# Altium footprint library ICs.PcbLib: 20 footprints (part 2 of 2)
Each footprint in its own frame and in the unit in brackets; x right, y up, seen from the top. Pads: shape width x height; smd on the part's side, far side on the other; paste and mask are expansions set on the pad; w line width, h text height; cw(c..) or ccw(c..) is an arc to the next point about the centre after c.
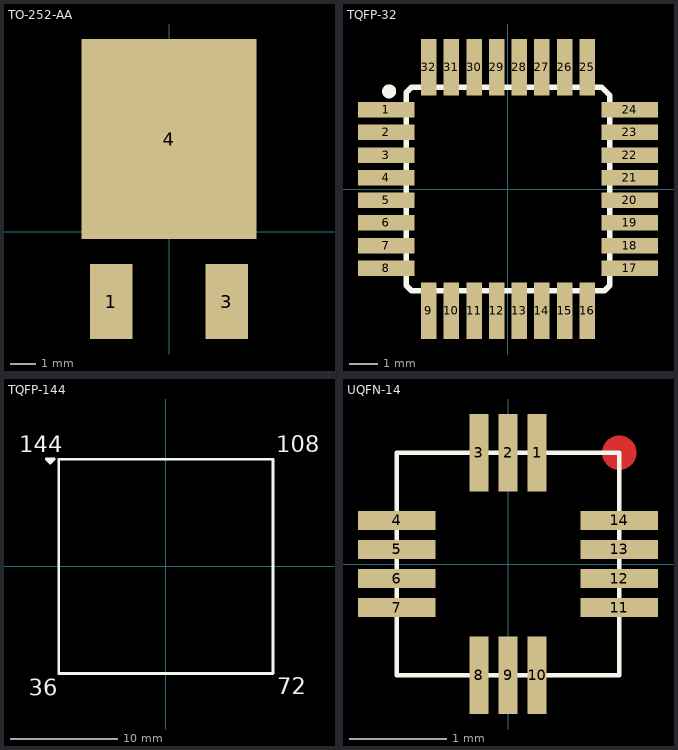
[diagram p1: the footprints below, top view; thin cyan lines are the x and y axes]

## TO-252-AA [mm]
pads (3):
  rect 1.7x3 smd: 1(-2.3,-2.8) 3(2.3,-2.8)
  rect 7x8 smd: 4(0,3.7)
3D body: height 2.4, standoff 0, extent -3.348,-3.7 3.329,6.7

## TQFP-32 [mm] "TQFP, 32 Leads, 7,00x7,00mm Body, 0,80mm Pitch, IPC Medium Density"
height 2.45
pads (32):
  rect 2x0.55 smd mask+0: 1(-4.3,2.8) 2(-4.3,2) 3(-4.3,1.2) 4(-4.3,0.4) 5(-4.3,-0.4) 6(-4.3,-1.2) 7(-4.3,-2) 8(-4.3,-2.8) 17(4.3,-2.8) 18(4.3,-2) 19(4.3,-1.2) 20(4.3,-0.4) 21(4.3,0.4) 22(4.3,1.2) 23(4.3,2) 24(4.3,2.8)
  rect 0.55x2 smd mask+0: 9(-2.8,-4.3) 10(-2,-4.3) 11(-1.2,-4.3) 12(-0.4,-4.3) 13(0.4,-4.3) 14(1.2,-4.3) 15(2,-4.3) 16(2.8,-4.3) 25(2.8,4.3) 26(2,4.3) 27(1.2,4.3) 28(0.4,4.3) 29(-0.4,4.3) 30(-1.2,4.3) 31(-2,4.3) 32(-2.8,4.3)
Top Overlay:
  circle w0.25: c-4.2,3.45 r0.125
  lines w0.2: -3.6,-3.4 -3.6,3.4 -3.4,3.6 3.3,3.6 3.6,3.3 3.6,-3.4 3.4,-3.6 -3.4,-3.6 -3.6,-3.4
3D body: height 1.2, standoff 0, extent -4.6,-4.6 4.6,4.6

## TQFP-144 [mm]
height 1.5
Top Overlay:
  lines w0.254: -10.795,10.033 -10.795,9.652 ; -10.795,9.652 -11.176,10.033 -10.414,10.033 -10.795,9.652 ; -10,-10 10,-10 10,10 -10,10 -10,-10
  text "72" at 10.414,-11.938 h1.52
  text "108" at 10.287,10.668 h1.52
  text "36" at -12.827,-12.065 h1.52
  text "144" at -13.716,10.668 h1.52

## UQFN-14 [mm]
pads (14):
  rect 0.2x0.8 smd mask+0: 1(0.3,1.15) 2(0,1.15) 3(-0.3,1.15) 8(-0.3,-1.15) 9(0,-1.15) 10(0.3,-1.15)
  rect 0.8x0.2 smd mask+0: 4(-1.15,0.45) 5(-1.15,0.15) 6(-1.15,-0.15) 7(-1.15,-0.45) 11(1.15,-0.45) 12(1.15,-0.15) 13(1.15,0.15) 14(1.15,0.45)
Top Layer:
  circle w0.254: c1.15,1.15 r0.05
Top Overlay:
  lines w0.05: -1.15,-1.15 -1.15,1.15 1.15,1.15 1.15,-1.15 -1.15,-1.15
3D body: height 0.6, standoff 0, extent -1.15,-1.15 1.15,1.15